# Altium schematic symbol library LMZ36002RVQT.SchLib: 1 symbol
Pins are listed as number, name and electrical type; pins without a type are passive.

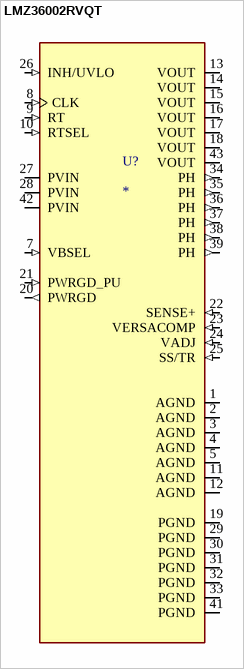
[diagram p0: symbol LMZ36002RVQT]

## LMZ36002RVQT
designator U?
SIMPLE SWITCHER 4.5V to 60V, 2A Power Module in QFN Package 43-B3QFN -40 to 105; MF: {'manufacturer': u'Texas Instruments'}; MP: LMZ36002RVQT; Price: None; Package: None; Value: *; Availability: Unavailable
footprint QFN80P1000X1000X448-43N
pins: 1 AGND (power), 2 AGND (power), 3 AGND (power), 4 AGND (power), 5 AGND (power), 7 VBSEL (in), 8 CLK (in), 9 RT (in), 10 RTSEL (in), 11 AGND (power), 12 AGND (power), 13 VOUT (power), 14 VOUT (power), 15 VOUT (power), 16 VOUT (power), 17 VOUT (power), 18 VOUT (power), 19 PGND (power), 20 PWRGD (out), 21 PWRGD_PU (in), 22 SENSE+ (in), 23 VERSACOMP (in), 24 VADJ (in), 25 SS/TR (in), 26 INH/UVLO (in), 27 PVIN (power), 28 PVIN (power), 29 PGND (power), 30 PGND (power), 31 PGND (power), 32 PGND (power), 33 PGND (power), 34 PH (out), 35 PH (out), 36 PH (out), 37 PH (out), 38 PH (out), 39 PH (out), 41 PGND (power), 42 PVIN (power), 43 VOUT (power)